# EAGLE library part HX711 (library HX711)
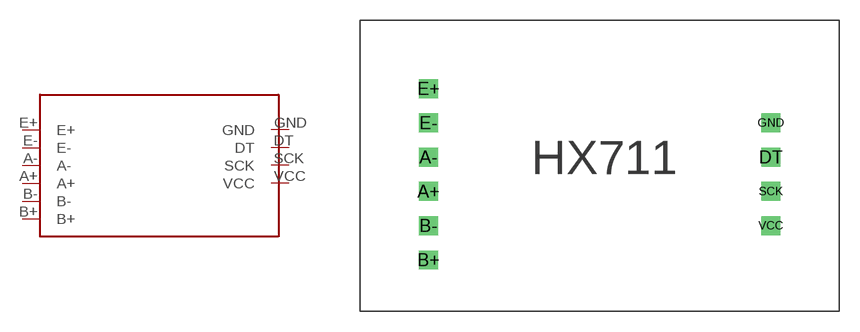
[diagram p0: symbol with the pads of HX711; footprint HX711]

Designator prefix -

## HX711A  [HX711]
A+  A+
A-  A-
B+  B+
B-  B-
DT  DT
E+  E+
E-  E-
GND  GND
SCK  SCK
VCC  VCC

## Footprint HX711 (pad centres in mm)
drill 0.9 square: A+ 5.08,8.89; A- 5.08,11.43; B+ 5.08,3.81; B- 5.08,6.35; DT 30.48,11.43; E+ 5.08,16.51; E- 5.08,13.97; GND 30.48,13.97; SCK 30.48,8.89; VCC 30.48,6.35